# EAGLE library part FDC9216 (library 8Bit_Parts)
Dual In Line / Socket
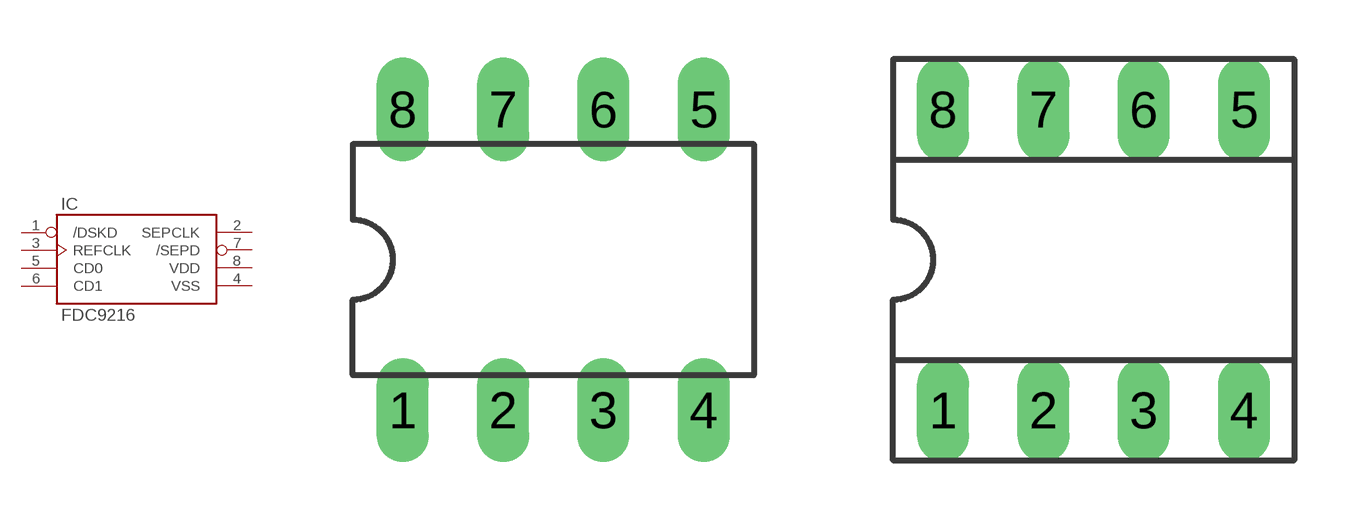
[diagram p13: symbol with the pads of DIL08; footprints DIL08, SOCKET-08]

Designator prefix IC

## FDC9216  [DIL08]
1  /DSKD  in
2  SEPCLK  out
3  REFCLK  pas
4  VSS  pwr
5  CD0  in
6  CD1  in
7  /SEPD  out
8  VDD  pwr

## FDC9216S  [SOCKET-08]
Pads as for DIL08

## Footprint DIL08 (pad centres in mm)
Dual In Line Package
drill 0.813 long: 1 -3.81,-3.81; 2 -1.27,-3.81; 3 1.27,-3.81; 4 3.81,-3.81; 5 3.81,3.81; 6 1.27,3.81; 7 -1.27,3.81; 8 -3.81,3.81

## Footprint SOCKET-08 (pad centres in mm)
Dual In Line Socket
drill 0.813 long: 1 -3.81,-3.81; 2 -1.27,-3.81; 3 1.27,-3.81; 4 3.81,-3.81; 5 3.81,3.81; 6 1.27,3.81; 7 -1.27,3.81; 8 -3.81,3.81